# Altium schematic symbol library TI Power Management DC-DC Controller (External Switch).SchLib: 349 symbols (part 9 of 26)
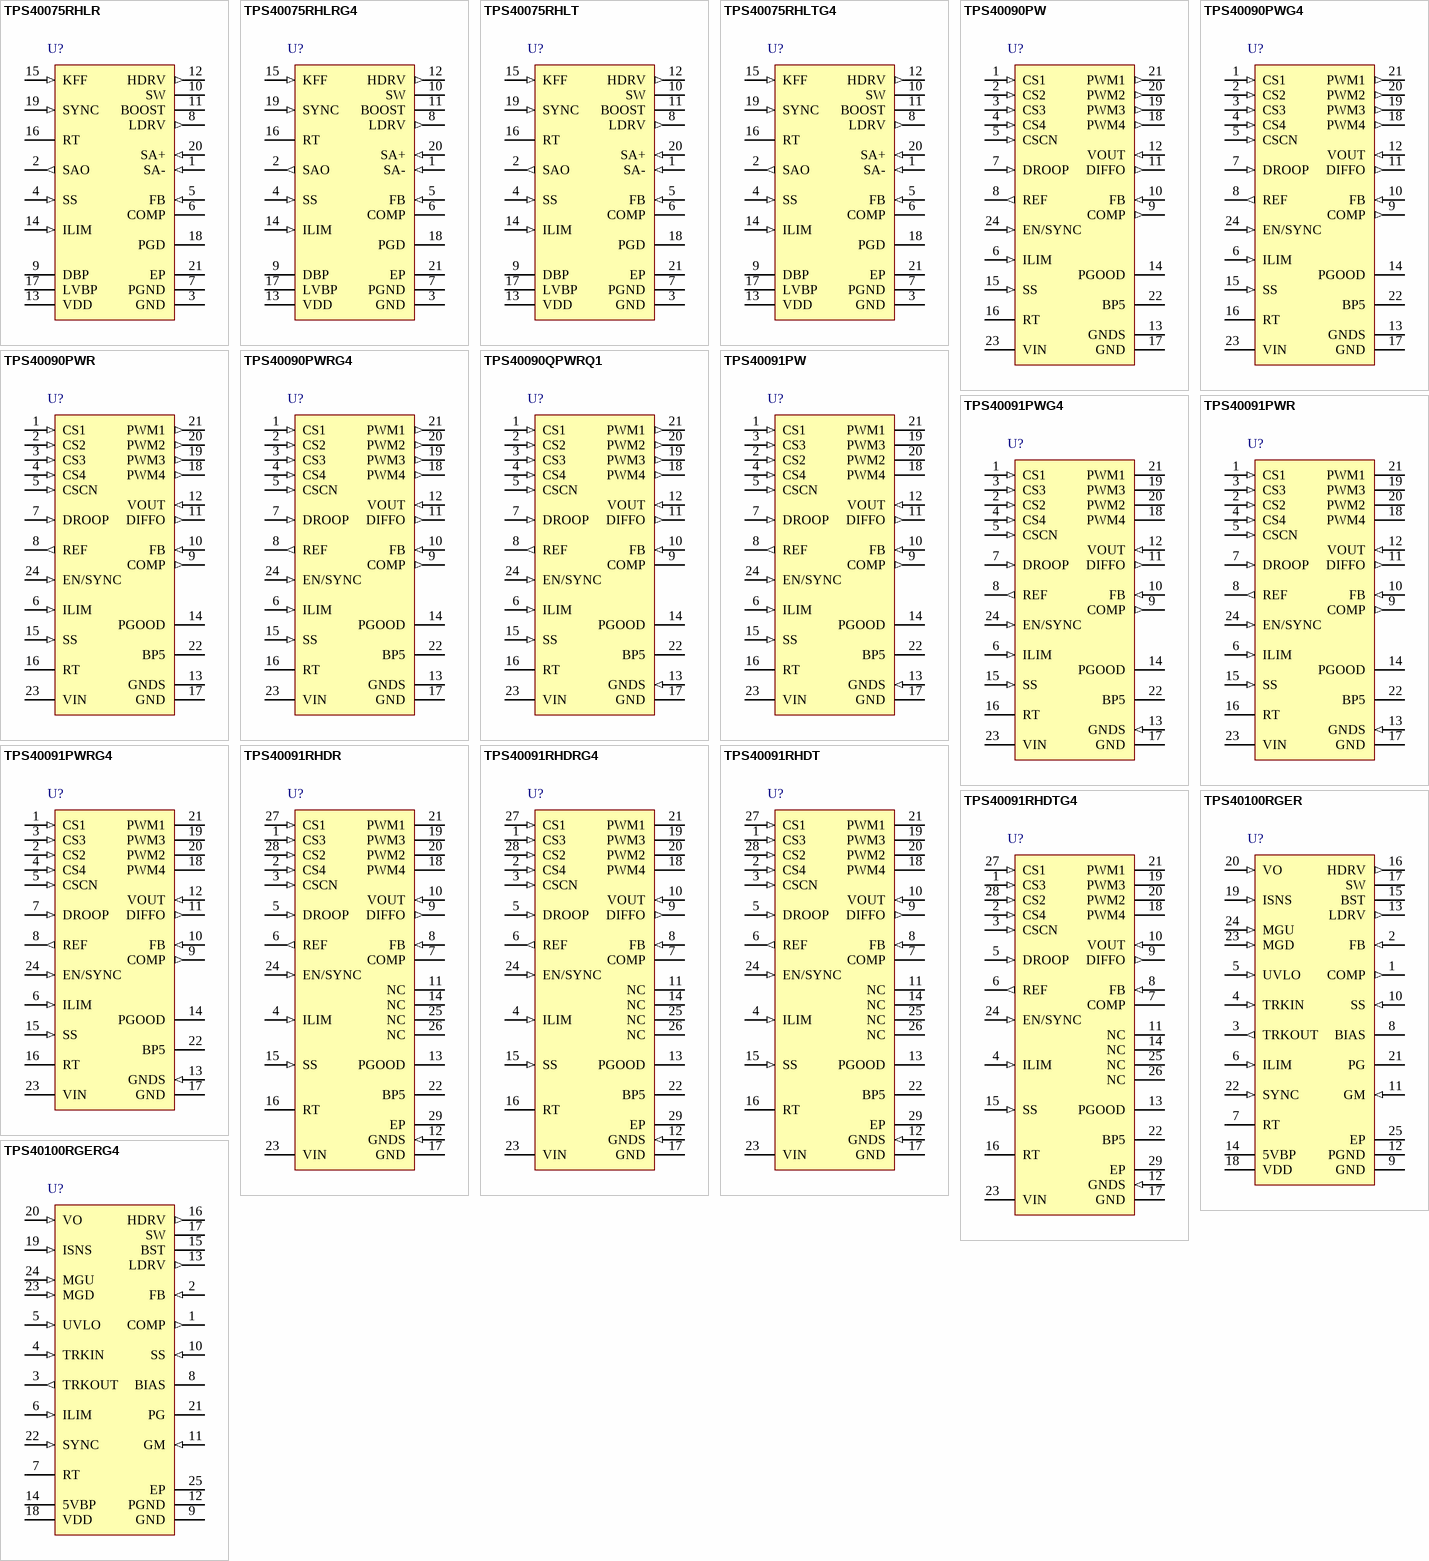
[diagram p22: symbols TPS40075RHLR to TPS40100RGERG4]

## TPS40091RHDTG4
designator U?
4 Channel Multiphase Buck DC / DC Controller with Tri-state, 87.5 % Duty Cycle, 4.5 to 15 V, 28-pin VQFN (RHD), Green (RoHS & no Sb/Br); Manufacturer: Texas Instruments; PartNumber: TPS40091RHDTG4; Duty Cycle(Max)(%): 87.5; Iout(Max)(A): 120; Regulated Outputs(#): 1; SubFamily: Multiple-Output Switching Controller; Switching Frequency(Max)(kHz): 1000; Synchronous Rectification: TRUE; Vin(Max)(V): 15; Vin(Min)(V): 4.5; Vout(Max)(V): 3.3; Vout(Min)(V): 0.7; DatasheetVersion: SLUS578B; PackageVersion: revF, Sep-2011; PackageReference: RHD28-3150X3150TP; PackageDescription: 28-Pin Plastic Quad Flatpack No-Lead, 5 x 5 mm Body, 0.5 mm Pitch, Exposed Pad; Supplier 1: Digi-Key; Supplier Part Number 1: TPS40091RHDTG4-ND; Eco-Plan: Green (RoHS & no Sb/Br); Topology: Multiphase; Mounting Technology: Surface Mount; Code_JEDEC: MO-220; ComponentLink1Description: Datasheet; ComponentLink1URL: http://www.ti.com/general/docs/lit/getliterature.tsp?genericPartNumber=TPS40091&fileType=pdf
footprint RHD28-3150X3150TP (QFN, 28-Leads, Body 5x5mm, Pitch 0.5mm, Thermal Pad 3.15x3.15mm, TI Recommended)
pins: 1 CS3 (in) "Used to sense the inductor current in the phases. Inductor current can be sensed with an external current sense resistor or by using an external circuit and the inductor's DC resistance. They are also used for overcurrent (See Datasheet)", 2 CS4 (in) "Used to sense the inductor current in the phases. Inductor current can be sensed with an external current sense resistor or by using an external circuit and the inductor's DC resistance. They are also used for overcurrent (See Datasheet)", 3 CSCN (in) "Common point of current sense resistors or filter inductors", 4 ILIM (in) "Used to set the cycle-by-cycle current limit threshold. If ILIM threshold is reached, the PWM cycle is terminated and the converter delivers limited current to the output. Under these conditions the undervoltage threshold is (See Datasheet)", 5 DROOP (in) "Used to program droop function. A resistor between this pin and the REF pin sets the desired droop value.", 6 REF (out) "Output of an internal 0.7-V reference voltage.", 7 COMP "Output of the error amplifier. The voltage at this pin determines the duty cycle for the PWM.", 8 FB (in) "Inverting input of the error amplifier. In closed loop operation, the voltage at this pin is the internal reference level of 700 mV. This pin is also used for the PGOOD and OVP comparators.", 9 DIFFO (out) "Output of the differential amplifier. The voltage at this pin represents the true output voltage without drops that result from high current in the PCB traces", 10 VOUT (in) "Noninverting input of the differential amplifier. This pin should be connected to VOUT at the point of load.", 11 NC "No connect pins", 12 GNDS (in) "Inverting input of the differential amplifier. This pin should be connected to ground at the point of load.", 13 PGOOD (oc) "Power good indicator of the output voltage. This open-drain output connects to the supply via an external resistor.", 14 NC "No connect pins", 15 SS (in) "Provides user programmable soft-start by means of a capacitor connected to the pin.", 16 RT "Connecting a resistor from this pin to ground sets the oscillator frequency.", 17 GND (power) "Ground connection to the device.", 18 PWM4 (hiz) "Phase shifted PWM outputs which control the external drivers. The high output signal commands a PWM cycle. The low output signal commands controlled conduction of the synchronous rectifiers. These pins are also used to (See Datasheet)", 19 PWM3 (hiz) "Phase shifted PWM outputs which control the external drivers. The high output signal commands a PWM cycle. The low output signal commands controlled conduction of the synchronous rectifiers. These pins are also used to (See Datasheet)", 20 PWM2 (hiz) "Phase shifted PWM outputs which control the external drivers. The high output signal commands a PWM cycle. The low output signal commands controlled conduction of the synchronous rectifiers. These pins are also used to (See Datasheet)", 21 PWM1 (hiz) "Phase shifted PWM outputs which control the external drivers. The high output signal commands a PWM cycle. The low output signal commands controlled conduction of the synchronous rectifiers. These pins are also used to (See Datasheet)", 22 BP5 (power) "Output of an internal 5V regulator. A 4.7-uF capacitor should be connected from this pin to ground. For 5V applications,this pin should be connected to VDD.", 23 VIN (power) "Power input for the chip. De-coupling of this pin is required.", 24 EN/SYNC (in) "A logic high signal on this input enables the controller operation. A pulsing signal to this pin synchronizes the main oscillator to the rising edge of an external clock source. These pulses must be of higher frequency than (See Datasheet)", 25 NC "No connect pins", 26 NC "No connect pins", 27 CS1 (in) "Used to sense the inductor current in the phases. Inductor current can be sensed with an external current sense resistor or by using an external circuit and the inductor's DC resistance. They are also used for overcurrent (See Datasheet)", 28 CS2 (in) "Used to sense the inductor current in the phases. Inductor current can be sensed with an external current sense resistor or by using an external circuit and the inductor's DC resistance. They are also used for overcurrent (See Datasheet)", 29 EP "Exposed Thermal Pad"

## TPS40100RGER
designator U?
Wide Input Range Synchronous Buck Controller for Sequencing, 85 % Duty Cycle, 4.5 to 18 V, -40 to 85 degC, 24-pin VQFN (RGE), Green (RoHS & no Sb/Br); Manufacturer: Texas Instruments; PartNumber: TPS40100RGER; Duty Cycle(Max)(%): 85; Iout(Max)(A): 20; Regulated Outputs(#): 1; SubFamily: Step-Down Controller; Switching Frequency(Max)(kHz): 600; Synchronous Rectification: TRUE; Vin(Max)(V): 18; Vin(Min)(V): 4.5; Vout(Max)(V): 5.5; Vout(Min)(V): 0.7; DatasheetVersion: SLUS601; PackageVersion: revG, Jul-2011; PackageReference: RGE24-2450X2450TP; PackageDescription: 24-Pin Plastic Quad Flatpack No-Lead, 4 x 4 mm Body, 0.5 mm Pitch; Supplier 1: Digi-Key; Supplier Part Number 1: 296-34770-2-ND; Eco-Plan: Green (RoHS & no Sb/Br); Topology: Buck; Mounting Technology: Surface Mount; Code_JEDEC: MO-220; ComponentLink1Description: Datasheet; ComponentLink1URL: http://www.ti.com/general/docs/lit/getliterature.tsp?genericPartNumber=TPS40100&fileType=pdf; ComponentLink2Description: Package Specification; ComponentLink2URL: http://www.ti.com/litv/pdf/mpqf124f
footprint RGE24-2450X2450TP (QFN, 24-Leads, Body 4x4mm, Pitch 0.5mm, Thermal Pad 2.45x2.45mm, TI Recommended)
pins: 1 COMP (out) "Output of the error amplifier. A feedback network is connected from this pin to the FB pin for control loop compensation.", 2 FB (in) "Inverting input to the error amplifier. In normal operation the voltage on this pin is equal to the internal reference voltage (approximately 690 mV).", 3 TRKOUT (out) "Output of the tracking amplifier. If the tracking feature is used, this pin should be connected to FB pin through a resistor in series with a diode. The resistor value can be calculated from the equivalent impedance at the (See Datasheet)", 4 TRKIN (in) "Control input allowing simultaneous startup of multiple controllers. The converter output tracks TRKIN voltage with a small controlled offset (typically 25 mV) when the tracking amplifier is used. See application secttion (See Datasheet)", 5 UVLO (in) "Provides for programming the undervoltage lockout level and serves as a shutdown input for the device.", 6 ILIM (in) "Current limit pin used to set the overcurrent threshold and transient ride out time. An internal current source that is proportional to the inductor current sets a voltage on a resistor connected from this pin to GND. When (See Datasheet)", 7 RT "A resistor connected from this pin to GND sets operating frequency.", 8 BIAS "The bypassed supply for internal device circuitry. Connect a 0.1-uF or greater ceramic capacitor from this pin to GND.", 9 GND (power) "Low power or signal ground for the device. All signal level circuits should be referenced to this pin unless otherwise noted.", 10 SS (in) "Soft-start programming pin. A capacitor connected from this pin to ground programs the soft-start time. This pin is also used as a time out function during an overcurrent event.", 11 GM (in) "Connect a resistor from this pin to GND to set the gain of the current sense amplifier.", 12 PGND (power) "Power ground for internal drivers", 13 LDRV (out) "Gate drive for the N-channel synchronous rectifier.", 14 5VBP (power) "Output of an internal 5-V regulator. A 1-uF bypass capacitor should be connected from this  pin to PGND. Power for external circuitry may be drawn from this pin. The total gate drive current and external current draw should (See Datasheet)", 15 BST (power) "Gate drive voltage for the high-side N-channel MOSFET. An external diode must be connected from 5VBP (A) to BST(K). A schottky diode is recommended for this purpose. A capacitor must be connected from this pin to the SW pin.", 16 HDRV (out) "Floating gate drive for the high side N-channel MOSFET.", 17 SW (power) "Connected to the switched node of the converter. This pin is the return line for the flying high side driver.", 18 VDD (power) "Supply voltage for the device.", 19 ISNS (in) "Input from the inductor DCR sensing network. This input signal is one of the inputs to the current sense amplifier for current feedback control and overcurrent protection.", 20 VO (in) "Output voltage. This is the reference input to the current sense amplifier for current mode control and overcurrent protection.", 21 PG (oc) "Open drain power good output for the device. This pin is pulled low when the voltage at the FB pin is more than 10% higher or lower than 690 mV, a UVLO condition exists, soft-start is active, tracking is active, an (See Datasheet)", 22 SYNC (in) "Rising edge triggered synchronization input for the device. This pin can be used to synchronize the oscillator frequency to an external master clock. This pin may be left floating or grounded if the function is not used.", 23 MGD (in) "Margin down pin used for load stress test. When this pin is pulled to GND through less than 10 k ohm, the output voltage is decreased by 5%. The 3% margin down at the output voltage is accommodated when this pin is connected (See Datasheet)", 24 MGU (in) "Margin up pin used for load stress test. When this pin is pulled to GND through less than 10 k ohm, the output voltage is increased by 5%. The 3% margin up at the output voltage is accommodated when this pin is connected to (See Datasheet)", 25 EP "Exposed pad."

## TPS40100RGERG4
designator U?
Wide Input Range Synchronous Buck Controller for Sequencing, 85 % Duty Cycle, 4.5 to 18 V, -40 to 85 degC, 24-pin VQFN (RGE), Green (RoHS & no Sb/Br); Manufacturer: Texas Instruments; PartNumber: TPS40100RGERG4; Duty Cycle(Max)(%): 85; Iout(Max)(A): 20; Regulated Outputs(#): 1; SubFamily: Step-Down Controller; Switching Frequency(Max)(kHz): 600; Synchronous Rectification: TRUE; Vin(Max)(V): 18; Vin(Min)(V): 4.5; Vout(Max)(V): 5.5; Vout(Min)(V): 0.7; DatasheetVersion: SLUS601; PackageVersion: revG, Jul-2011; PackageReference: RGE24-2450X2450TP; PackageDescription: 24-Pin Plastic Quad Flatpack No-Lead, 4 x 4 mm Body, 0.5 mm Pitch; Supplier 1: Digi-Key; Supplier Part Number 1: TPS40100RGERG4-ND; Eco-Plan: Green (RoHS & no Sb/Br); Topology: Buck; Mounting Technology: Surface Mount; Code_JEDEC: MO-220; ComponentLink1Description: Datasheet; ComponentLink1URL: http://www.ti.com/general/docs/lit/getliterature.tsp?genericPartNumber=TPS40100&fileType=pdf; ComponentLink2Description: Package Specification; ComponentLink2URL: http://www.ti.com/litv/pdf/mpqf124f
footprint RGE24-2450X2450TP (QFN, 24-Leads, Body 4x4mm, Pitch 0.5mm, Thermal Pad 2.45x2.45mm, TI Recommended)
pins: 1 COMP (out) "Output of the error amplifier. A feedback network is connected from this pin to the FB pin for control loop compensation.", 2 FB (in) "Inverting input to the error amplifier. In normal operation the voltage on this pin is equal to the internal reference voltage (approximately 690 mV).", 3 TRKOUT (out) "Output of the tracking amplifier. If the tracking feature is used, this pin should be connected to FB pin through a resistor in series with a diode. The resistor value can be calculated from the equivalent impedance at the (See Datasheet)", 4 TRKIN (in) "Control input allowing simultaneous startup of multiple controllers. The converter output tracks TRKIN voltage with a small controlled offset (typically 25 mV) when the tracking amplifier is used. See application secttion (See Datasheet)", 5 UVLO (in) "Provides for programming the undervoltage lockout level and serves as a shutdown input for the device.", 6 ILIM (in) "Current limit pin used to set the overcurrent threshold and transient ride out time. An internal current source that is proportional to the inductor current sets a voltage on a resistor connected from this pin to GND. When (See Datasheet)", 7 RT "A resistor connected from this pin to GND sets operating frequency.", 8 BIAS "The bypassed supply for internal device circuitry. Connect a 0.1-uF or greater ceramic capacitor from this pin to GND.", 9 GND (power) "Low power or signal ground for the device. All signal level circuits should be referenced to this pin unless otherwise noted.", 10 SS (in) "Soft-start programming pin. A capacitor connected from this pin to ground programs the soft-start time. This pin is also used as a time out function during an overcurrent event.", 11 GM (in) "Connect a resistor from this pin to GND to set the gain of the current sense amplifier.", 12 PGND (power) "Power ground for internal drivers", 13 LDRV (out) "Gate drive for the N-channel synchronous rectifier.", 14 5VBP (power) "Output of an internal 5-V regulator. A 1-uF bypass capacitor should be connected from this  pin to PGND. Power for external circuitry may be drawn from this pin. The total gate drive current and external current draw should (See Datasheet)", 15 BST (power) "Gate drive voltage for the high-side N-channel MOSFET. An external diode must be connected from 5VBP (A) to BST(K). A schottky diode is recommended for this purpose. A capacitor must be connected from this pin to the SW pin.", 16 HDRV (out) "Floating gate drive for the high side N-channel MOSFET.", 17 SW (power) "Connected to the switched node of the converter. This pin is the return line for the flying high side driver.", 18 VDD (power) "Supply voltage for the device.", 19 ISNS (in) "Input from the inductor DCR sensing network. This input signal is one of the inputs to the current sense amplifier for current feedback control and overcurrent protection.", 20 VO (in) "Output voltage. This is the reference input to the current sense amplifier for current mode control and overcurrent protection.", 21 PG (oc) "Open drain power good output for the device. This pin is pulled low when the voltage at the FB pin is more than 10% higher or lower than 690 mV, a UVLO condition exists, soft-start is active, tracking is active, an (See Datasheet)", 22 SYNC (in) "Rising edge triggered synchronization input for the device. This pin can be used to synchronize the oscillator frequency to an external master clock. This pin may be left floating or grounded if the function is not used.", 23 MGD (in) "Margin down pin used for load stress test. When this pin is pulled to GND through less than 10 k ohm, the output voltage is decreased by 5%. The 3% margin down at the output voltage is accommodated when this pin is connected (See Datasheet)", 24 MGU (in) "Margin up pin used for load stress test. When this pin is pulled to GND through less than 10 k ohm, the output voltage is increased by 5%. The 3% margin up at the output voltage is accommodated when this pin is connected to (See Datasheet)", 25 EP "Exposed pad."

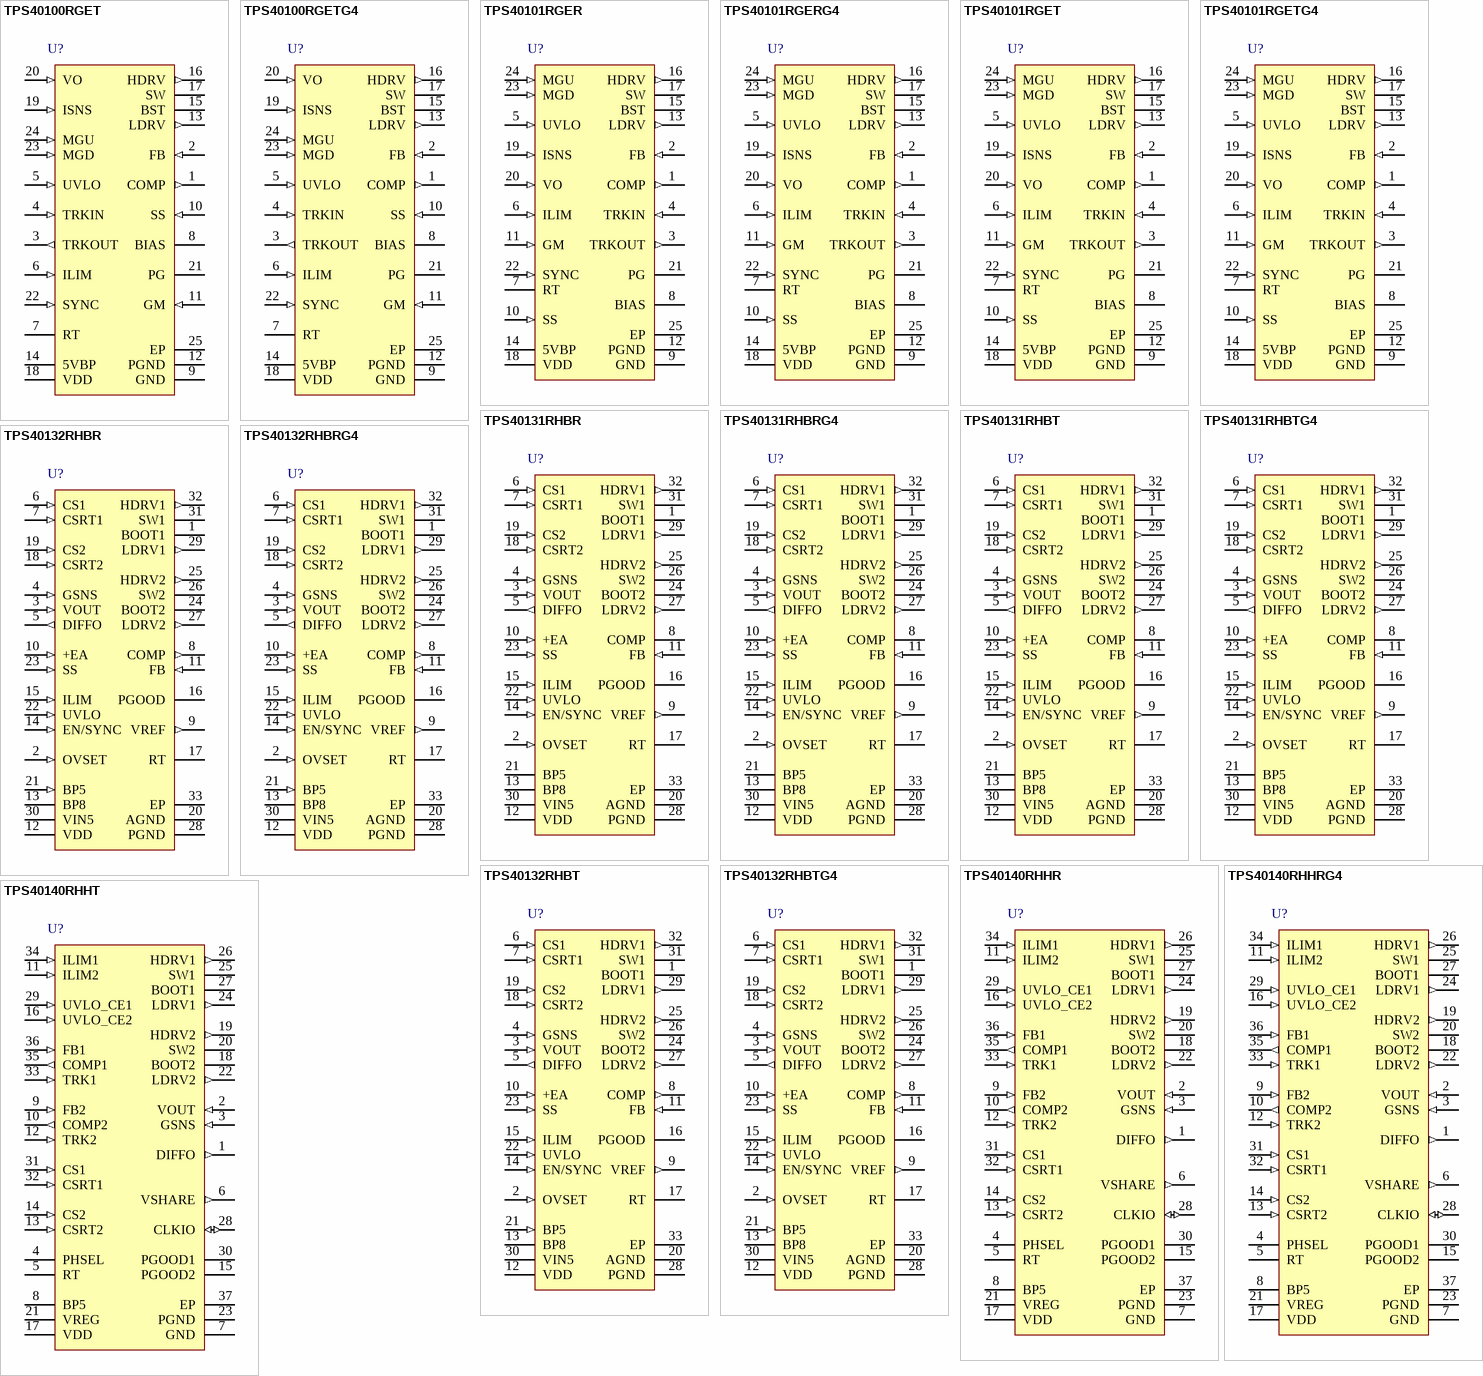
[diagram p6: symbols TPS40100RGET to TPS40140RHHT]

## TPS40100RGET
designator U?
Wide Input Range Synchronous Buck Controller for Sequencing, 85 % Duty Cycle, 4.5 to 18 V, -40 to 85 degC, 24-pin VQFN (RGE), Green (RoHS & no Sb/Br); Manufacturer: Texas Instruments; PartNumber: TPS40100RGET; Duty Cycle(Max)(%): 85; Iout(Max)(A): 20; Regulated Outputs(#): 1; SubFamily: Step-Down Controller; Switching Frequency(Max)(kHz): 600; Synchronous Rectification: TRUE; Vin(Max)(V): 18; Vin(Min)(V): 4.5; Vout(Max)(V): 5.5; Vout(Min)(V): 0.7; DatasheetVersion: SLUS601; PackageVersion: revG, Jul-2011; PackageReference: RGE24-2450X2450TP; PackageDescription: 24-Pin Plastic Quad Flatpack No-Lead, 4 x 4 mm Body, 0.5 mm Pitch; Supplier 1: Digi-Key; Supplier Part Number 1: 296-18077-2-ND; Eco-Plan: Green (RoHS & no Sb/Br); Topology: Buck; Mounting Technology: Surface Mount; Code_JEDEC: MO-220; ComponentLink1Description: Datasheet; ComponentLink1URL: http://www.ti.com/general/docs/lit/getliterature.tsp?genericPartNumber=TPS40100&fileType=pdf; ComponentLink2Description: Package Specification; ComponentLink2URL: http://www.ti.com/litv/pdf/mpqf124f
footprint RGE24-2450X2450TP (QFN, 24-Leads, Body 4x4mm, Pitch 0.5mm, Thermal Pad 2.45x2.45mm, TI Recommended)
pins: 1 COMP (out) "Output of the error amplifier. A feedback network is connected from this pin to the FB pin for control loop compensation.", 2 FB (in) "Inverting input to the error amplifier. In normal operation the voltage on this pin is equal to the internal reference voltage (approximately 690 mV).", 3 TRKOUT (out) "Output of the tracking amplifier. If the tracking feature is used, this pin should be connected to FB pin through a resistor in series with a diode. The resistor value can be calculated from the equivalent impedance at the (See Datasheet)", 4 TRKIN (in) "Control input allowing simultaneous startup of multiple controllers. The converter output tracks TRKIN voltage with a small controlled offset (typically 25 mV) when the tracking amplifier is used. See application secttion (See Datasheet)", 5 UVLO (in) "Provides for programming the undervoltage lockout level and serves as a shutdown input for the device.", 6 ILIM (in) "Current limit pin used to set the overcurrent threshold and transient ride out time. An internal current source that is proportional to the inductor current sets a voltage on a resistor connected from this pin to GND. When (See Datasheet)", 7 RT "A resistor connected from this pin to GND sets operating frequency.", 8 BIAS "The bypassed supply for internal device circuitry. Connect a 0.1-uF or greater ceramic capacitor from this pin to GND.", 9 GND (power) "Low power or signal ground for the device. All signal level circuits should be referenced to this pin unless otherwise noted.", 10 SS (in) "Soft-start programming pin. A capacitor connected from this pin to ground programs the soft-start time. This pin is also used as a time out function during an overcurrent event.", 11 GM (in) "Connect a resistor from this pin to GND to set the gain of the current sense amplifier.", 12 PGND (power) "Power ground for internal drivers", 13 LDRV (out) "Gate drive for the N-channel synchronous rectifier.", 14 5VBP (power) "Output of an internal 5-V regulator. A 1-uF bypass capacitor should be connected from this  pin to PGND. Power for external circuitry may be drawn from this pin. The total gate drive current and external current draw should (See Datasheet)", 15 BST (power) "Gate drive voltage for the high-side N-channel MOSFET. An external diode must be connected from 5VBP (A) to BST(K). A schottky diode is recommended for this purpose. A capacitor must be connected from this pin to the SW pin.", 16 HDRV (out) "Floating gate drive for the high side N-channel MOSFET.", 17 SW (power) "Connected to the switched node of the converter. This pin is the return line for the flying high side driver.", 18 VDD (power) "Supply voltage for the device.", 19 ISNS (in) "Input from the inductor DCR sensing network. This input signal is one of the inputs to the current sense amplifier for current feedback control and overcurrent protection.", 20 VO (in) "Output voltage. This is the reference input to the current sense amplifier for current mode control and overcurrent protection.", 21 PG (oc) "Open drain power good output for the device. This pin is pulled low when the voltage at the FB pin is more than 10% higher or lower than 690 mV, a UVLO condition exists, soft-start is active, tracking is active, an (See Datasheet)", 22 SYNC (in) "Rising edge triggered synchronization input for the device. This pin can be used to synchronize the oscillator frequency to an external master clock. This pin may be left floating or grounded if the function is not used.", 23 MGD (in) "Margin down pin used for load stress test. When this pin is pulled to GND through less than 10 k ohm, the output voltage is decreased by 5%. The 3% margin down at the output voltage is accommodated when this pin is connected (See Datasheet)", 24 MGU (in) "Margin up pin used for load stress test. When this pin is pulled to GND through less than 10 k ohm, the output voltage is increased by 5%. The 3% margin up at the output voltage is accommodated when this pin is connected to (See Datasheet)", 25 EP "Exposed pad."

## TPS40100RGETG4
designator U?
Wide Input Range Synchronous Buck Controller for Sequencing, 85 % Duty Cycle, 4.5 to 18 V, -40 to 85 degC, 24-pin VQFN (RGE), Green (RoHS & no Sb/Br); Manufacturer: Texas Instruments; PartNumber: TPS40100RGETG4; Duty Cycle(Max)(%): 85; Iout(Max)(A): 20; Regulated Outputs(#): 1; SubFamily: Step-Down Controller; Switching Frequency(Max)(kHz): 600; Synchronous Rectification: TRUE; Vin(Max)(V): 18; Vin(Min)(V): 4.5; Vout(Max)(V): 5.5; Vout(Min)(V): 0.7; DatasheetVersion: SLUS601; PackageVersion: revG, Jul-2011; PackageReference: RGE24-2450X2450TP; PackageDescription: 24-Pin Plastic Quad Flatpack No-Lead, 4 x 4 mm Body, 0.5 mm Pitch; Supplier 1: Digi-Key; Supplier Part Number 1: TPS40100RGETG4-ND; Eco-Plan: Green (RoHS & no Sb/Br); Topology: Buck; Mounting Technology: Surface Mount; Code_JEDEC: MO-220; ComponentLink1Description: Datasheet; ComponentLink1URL: http://www.ti.com/general/docs/lit/getliterature.tsp?genericPartNumber=TPS40100&fileType=pdf; ComponentLink2Description: Package Specification; ComponentLink2URL: http://www.ti.com/litv/pdf/mpqf124f
footprint RGE24-2450X2450TP (QFN, 24-Leads, Body 4x4mm, Pitch 0.5mm, Thermal Pad 2.45x2.45mm, TI Recommended)
pins: 1 COMP (out) "Output of the error amplifier. A feedback network is connected from this pin to the FB pin for control loop compensation.", 2 FB (in) "Inverting input to the error amplifier. In normal operation the voltage on this pin is equal to the internal reference voltage (approximately 690 mV).", 3 TRKOUT (out) "Output of the tracking amplifier. If the tracking feature is used, this pin should be connected to FB pin through a resistor in series with a diode. The resistor value can be calculated from the equivalent impedance at the (See Datasheet)", 4 TRKIN (in) "Control input allowing simultaneous startup of multiple controllers. The converter output tracks TRKIN voltage with a small controlled offset (typically 25 mV) when the tracking amplifier is used. See application secttion (See Datasheet)", 5 UVLO (in) "Provides for programming the undervoltage lockout level and serves as a shutdown input for the device.", 6 ILIM (in) "Current limit pin used to set the overcurrent threshold and transient ride out time. An internal current source that is proportional to the inductor current sets a voltage on a resistor connected from this pin to GND. When (See Datasheet)", 7 RT "A resistor connected from this pin to GND sets operating frequency.", 8 BIAS "The bypassed supply for internal device circuitry. Connect a 0.1-uF or greater ceramic capacitor from this pin to GND.", 9 GND (power) "Low power or signal ground for the device. All signal level circuits should be referenced to this pin unless otherwise noted.", 10 SS (in) "Soft-start programming pin. A capacitor connected from this pin to ground programs the soft-start time. This pin is also used as a time out function during an overcurrent event.", 11 GM (in) "Connect a resistor from this pin to GND to set the gain of the current sense amplifier.", 12 PGND (power) "Power ground for internal drivers", 13 LDRV (out) "Gate drive for the N-channel synchronous rectifier.", 14 5VBP (power) "Output of an internal 5-V regulator. A 1-uF bypass capacitor should be connected from this  pin to PGND. Power for external circuitry may be drawn from this pin. The total gate drive current and external current draw should (See Datasheet)", 15 BST (power) "Gate drive voltage for the high-side N-channel MOSFET. An external diode must be connected from 5VBP (A) to BST(K). A schottky diode is recommended for this purpose. A capacitor must be connected from this pin to the SW pin.", 16 HDRV (out) "Floating gate drive for the high side N-channel MOSFET.", 17 SW (power) "Connected to the switched node of the converter. This pin is the return line for the flying high side driver.", 18 VDD (power) "Supply voltage for the device.", 19 ISNS (in) "Input from the inductor DCR sensing network. This input signal is one of the inputs to the current sense amplifier for current feedback control and overcurrent protection.", 20 VO (in) "Output voltage. This is the reference input to the current sense amplifier for current mode control and overcurrent protection.", 21 PG (oc) "Open drain power good output for the device. This pin is pulled low when the voltage at the FB pin is more than 10% higher or lower than 690 mV, a UVLO condition exists, soft-start is active, tracking is active, an (See Datasheet)", 22 SYNC (in) "Rising edge triggered synchronization input for the device. This pin can be used to synchronize the oscillator frequency to an external master clock. This pin may be left floating or grounded if the function is not used.", 23 MGD (in) "Margin down pin used for load stress test. When this pin is pulled to GND through less than 10 k ohm, the output voltage is decreased by 5%. The 3% margin down at the output voltage is accommodated when this pin is connected (See Datasheet)", 24 MGU (in) "Margin up pin used for load stress test. When this pin is pulled to GND through less than 10 k ohm, the output voltage is increased by 5%. The 3% margin up at the output voltage is accommodated when this pin is connected to (See Datasheet)", 25 EP "Exposed pad."

## TPS40101RGER
designator U?
Mid Range Input Synchronous Buck Controller with Advanced Sequencing and Output Margining, 85 % Duty Cycle, 4.5 to 18 V, -40 to 85 degC, 24-pin VQFN (RGE), Green (RoHS & no Sb/Br); Manufacturer: Texas Instruments; PartNumber: TPS40101RGER; Duty Cycle(Max)(%): 85; Iout(Max)(A): 20; Regulated Outputs(#): 1; SubFamily: Step-Down Controller; Switching Frequency(Max)(kHz): 1000; Synchronous Rectification: TRUE; Vin(Max)(V): 18; Vin(Min)(V): 4.5; Vout(Max)(V): 5.5; Vout(Min)(V): 0.69; DatasheetVersion: SLUS726; PackageVersion: revG, Jul-2011; PackageReference: RGE24-2450X2450TP; PackageDescription: 24-Pin Plastic Quad Flatpack No-Lead, 4 x 4 mm Body, 0.5 mm Pitch; Supplier 1: Digi-Key; Supplier Part Number 1: 296-21271-2-ND; Eco-Plan: Green (RoHS & no Sb/Br); Topology: Buck; Mounting Technology: Surface Mount; Code_JEDEC: MO-220; ComponentLink1Description: Datasheet; ComponentLink1URL: http://www.ti.com/general/docs/lit/getliterature.tsp?genericPartNumber=TPS40101&fileType=pdf; ComponentLink2Description: Package Specification; ComponentLink2URL: http://www.ti.com/litv/pdf/mpqf124f
footprint RGE24-2450X2450TP (QFN, 24-Leads, Body 4x4mm, Pitch 0.5mm, Thermal Pad 2.45x2.45mm, TI Recommended)
pins: 1 COMP (out) "Output of the error amplifier. A feedback network is connected from this pin to the FB pin for control loop compensation.", 2 FB (in) "Inverting input to the error amplifier. In normal operation the voltage on this pin is equal to the internal reference voltage (approximately 690 mV).", 3 TRKOUT (out) "Output of the tracking amplifier. If the tracking feature is used, this pin should be connected to FB pin through a resistor in series with a diode. The resistor value can be calculated from the equivalent impedance at the (See Datasheet)", 4 TRKIN (in) "Control input allowing simultaneous startup of multiple controllers. The converter output tracks TRKIN voltage with a small controlled offset (typically 25 mV) when the tracking amplifier is used. See application secttion (See Datasheet)", 5 UVLO (in) "Provides for programming the undervoltage lockout level and serves as a shutdown input for the device.", 6 ILIM (in) "Current limit pin used to set the overcurrent threshold and transient ride out time. An internal current source that is proportional to the inductor current sets a voltage on a resistor connected from this pin to GND. When (See Datasheet)", 7 RT "A resistor connected from this pin to GND sets operating frequency.", 8 BIAS "The bypassed supply for internal device circuitry. Connect a 0.1-uF or greater ceramic capacitor from this pin to GND.", 9 GND (power) "Low power or signal ground for the device. All signal level circuits should be referenced to this pin unless otherwise noted.", 10 SS (in) "Soft-start programming pin. A capacitor connected from this pin to ground programs the soft-start time. This pin is also used as a time out function during an overcurrent event.", 11 GM (in) "Connect a resistor from this pin to GND to set the gain of the current sense amplifier.", 12 PGND (power) "Power ground for internal drivers", 13 LDRV (out) "Gate drive for the N-channel synchronous rectifier.", 14 5VBP (power) "Output of an internal 5-V regulator. A 1-uF bypass capacitor should be connected from this  pin to PGND. Power for external circuitry may be drawn from this pin. The total gate drive current and external current draw should (See Datasheet)", 15 BST (power) "Gate drive voltage for the high-side N-channel MOSFET. An external diode must be connected from 5VBP (A) to BST(K). A schottky diode is recommended for this purpose. A capacitor must be connected from this pin to the SW pin.", 16 HDRV (out) "Floating gate drive for the high side N-channel MOSFET.", 17 SW (power) "Connected to the switched node of the converter. This pin is the return line for the flying high side driver.", 18 VDD (power) "Supply voltage for the device.", 19 ISNS (in) "Input from the inductor DCR sensing network. This input signal is one of the inputs to the current sense amplifier for current feedback control and overcurrent protection.", 20 VO (in) "Output voltage. This is the reference input to the current sense amplifier for current mode control and overcurrent protection.", 21 PG (oc) "Open drain power good output for the device. This pin is pulled low when the voltage at the FB pin is more than 10% higher or lower than 690 mV, a UVLO condition exists, soft-start is active, tracking is active, an (See Datasheet)", 22 SYNC (in) "Rising edge triggered synchronization input for the device. This pin can be used to synchronize the oscillator frequency to an external master clock. This pin may be left floating or grounded if the function is not used.", 23 MGD (in) "Margin down pin used for load stress test. When this pin is pulled to GND through less than 10 k ohm, the output voltage is decreased by 5%. The 3% margin down at the output voltage is accommodated when this pin is connected (See Datasheet)", 24 MGU (in) "Margin up pin used for load stress test. When this pin is pulled to GND through less than 10 k ohm, the output voltage is increased by 5%. The 3% margin up at the output voltage is accommodated when this pin is connected to (See Datasheet)", 25 EP "Exposed pad."

## TPS40101RGERG4
designator U?
Mid Range Input Synchronous Buck Controller with Advanced Sequencing and Output Margining, 85 % Duty Cycle, 4.5 to 18 V, -40 to 85 degC, 24-pin VQFN (RGE), Green (RoHS & no Sb/Br); Manufacturer: Texas Instruments; PartNumber: TPS40101RGERG4; Duty Cycle(Max)(%): 85; Iout(Max)(A): 20; Regulated Outputs(#): 1; SubFamily: Step-Down Controller; Switching Frequency(Max)(kHz): 1000; Synchronous Rectification: TRUE; Vin(Max)(V): 18; Vin(Min)(V): 4.5; Vout(Max)(V): 5.5; Vout(Min)(V): 0.69; DatasheetVersion: SLUS726; PackageVersion: revG, Jul-2011; PackageReference: RGE24-2450X2450TP; PackageDescription: 24-Pin Plastic Quad Flatpack No-Lead, 4 x 4 mm Body, 0.5 mm Pitch; Supplier 1: Digi-Key; Supplier Part Number 1: TPS40101RGERG4-ND; Eco-Plan: Green (RoHS & no Sb/Br); Topology: Buck; Mounting Technology: Surface Mount; Code_JEDEC: MO-220; ComponentLink1Description: Datasheet; ComponentLink1URL: http://www.ti.com/general/docs/lit/getliterature.tsp?genericPartNumber=TPS40101&fileType=pdf; ComponentLink2Description: Package Specification; ComponentLink2URL: http://www.ti.com/litv/pdf/mpqf124f
footprint RGE24-2450X2450TP (QFN, 24-Leads, Body 4x4mm, Pitch 0.5mm, Thermal Pad 2.45x2.45mm, TI Recommended)
pins: 1 COMP (out) "Output of the error amplifier. A feedback network is connected from this pin to the FB pin for control loop compensation.", 2 FB (in) "Inverting input to the error amplifier. In normal operation the voltage on this pin is equal to the internal reference voltage (approximately 690 mV).", 3 TRKOUT (out) "Output of the tracking amplifier. If the tracking feature is used, this pin should be connected to FB pin through a resistor in series with a diode. The resistor value can be calculated from the equivalent impedance at the (See Datasheet)", 4 TRKIN (in) "Control input allowing simultaneous startup of multiple controllers. The converter output tracks TRKIN voltage with a small controlled offset (typically 25 mV) when the tracking amplifier is used. See application secttion (See Datasheet)", 5 UVLO (in) "Provides for programming the undervoltage lockout level and serves as a shutdown input for the device.", 6 ILIM (in) "Current limit pin used to set the overcurrent threshold and transient ride out time. An internal current source that is proportional to the inductor current sets a voltage on a resistor connected from this pin to GND. When (See Datasheet)", 7 RT "A resistor connected from this pin to GND sets operating frequency.", 8 BIAS "The bypassed supply for internal device circuitry. Connect a 0.1-uF or greater ceramic capacitor from this pin to GND.", 9 GND (power) "Low power or signal ground for the device. All signal level circuits should be referenced to this pin unless otherwise noted.", 10 SS (in) "Soft-start programming pin. A capacitor connected from this pin to ground programs the soft-start time. This pin is also used as a time out function during an overcurrent event.", 11 GM (in) "Connect a resistor from this pin to GND to set the gain of the current sense amplifier.", 12 PGND (power) "Power ground for internal drivers", 13 LDRV (out) "Gate drive for the N-channel synchronous rectifier.", 14 5VBP (power) "Output of an internal 5-V regulator. A 1-uF bypass capacitor should be connected from this  pin to PGND. Power for external circuitry may be drawn from this pin. The total gate drive current and external current draw should (See Datasheet)", 15 BST (power) "Gate drive voltage for the high-side N-channel MOSFET. An external diode must be connected from 5VBP (A) to BST(K). A schottky diode is recommended for this purpose. A capacitor must be connected from this pin to the SW pin.", 16 HDRV (out) "Floating gate drive for the high side N-channel MOSFET.", 17 SW (power) "Connected to the switched node of the converter. This pin is the return line for the flying high side driver.", 18 VDD (power) "Supply voltage for the device.", 19 ISNS (in) "Input from the inductor DCR sensing network. This input signal is one of the inputs to the current sense amplifier for current feedback control and overcurrent protection.", 20 VO (in) "Output voltage. This is the reference input to the current sense amplifier for current mode control and overcurrent protection.", 21 PG (oc) "Open drain power good output for the device. This pin is pulled low when the voltage at the FB pin is more than 10% higher or lower than 690 mV, a UVLO condition exists, soft-start is active, tracking is active, an (See Datasheet)", 22 SYNC (in) "Rising edge triggered synchronization input for the device. This pin can be used to synchronize the oscillator frequency to an external master clock. This pin may be left floating or grounded if the function is not used.", 23 MGD (in) "Margin down pin used for load stress test. When this pin is pulled to GND through less than 10 k ohm, the output voltage is decreased by 5%. The 3% margin down at the output voltage is accommodated when this pin is connected (See Datasheet)", 24 MGU (in) "Margin up pin used for load stress test. When this pin is pulled to GND through less than 10 k ohm, the output voltage is increased by 5%. The 3% margin up at the output voltage is accommodated when this pin is connected to (See Datasheet)", 25 EP "Exposed pad."

## TPS40101RGET
designator U?
Mid Range Input Synchronous Buck Controller with Advanced Sequencing and Output Margining, 85 % Duty Cycle, 4.5 to 18 V, -40 to 85 degC, 24-pin VQFN (RGE), Green (RoHS & no Sb/Br); Manufacturer: Texas Instruments; PartNumber: TPS40101RGET; Duty Cycle(Max)(%): 85; Iout(Max)(A): 20; Regulated Outputs(#): 1; SubFamily: Step-Down Controller; Switching Frequency(Max)(kHz): 1000; Synchronous Rectification: TRUE; Vin(Max)(V): 18; Vin(Min)(V): 4.5; Vout(Max)(V): 5.5; Vout(Min)(V): 0.69; DatasheetVersion: SLUS726; PackageVersion: revG, Jul-2011; PackageReference: RGE24-2450X2450TP; PackageDescription: 24-Pin Plastic Quad Flatpack No-Lead, 4 x 4 mm Body, 0.5 mm Pitch; Supplier 1: Digi-Key; Supplier Part Number 1: TPS40101RGET-ND; Eco-Plan: Green (RoHS & no Sb/Br); Topology: Buck; Mounting Technology: Surface Mount; Code_JEDEC: MO-220; ComponentLink1Description: Datasheet; ComponentLink1URL: http://www.ti.com/general/docs/lit/getliterature.tsp?genericPartNumber=TPS40101&fileType=pdf; ComponentLink2Description: Package Specification; ComponentLink2URL: http://www.ti.com/litv/pdf/mpqf124f
footprint RGE24-2450X2450TP (QFN, 24-Leads, Body 4x4mm, Pitch 0.5mm, Thermal Pad 2.45x2.45mm, TI Recommended)
pins: 1 COMP (out) "Output of the error amplifier. A feedback network is connected from this pin to the FB pin for control loop compensation.", 2 FB (in) "Inverting input to the error amplifier. In normal operation the voltage on this pin is equal to the internal reference voltage (approximately 690 mV).", 3 TRKOUT (out) "Output of the tracking amplifier. If the tracking feature is used, this pin should be connected to FB pin through a resistor in series with a diode. The resistor value can be calculated from the equivalent impedance at the (See Datasheet)", 4 TRKIN (in) "Control input allowing simultaneous startup of multiple controllers. The converter output tracks TRKIN voltage with a small controlled offset (typically 25 mV) when the tracking amplifier is used. See application secttion (See Datasheet)", 5 UVLO (in) "Provides for programming the undervoltage lockout level and serves as a shutdown input for the device.", 6 ILIM (in) "Current limit pin used to set the overcurrent threshold and transient ride out time. An internal current source that is proportional to the inductor current sets a voltage on a resistor connected from this pin to GND. When (See Datasheet)", 7 RT "A resistor connected from this pin to GND sets operating frequency.", 8 BIAS "The bypassed supply for internal device circuitry. Connect a 0.1-uF or greater ceramic capacitor from this pin to GND.", 9 GND (power) "Low power or signal ground for the device. All signal level circuits should be referenced to this pin unless otherwise noted.", 10 SS (in) "Soft-start programming pin. A capacitor connected from this pin to ground programs the soft-start time. This pin is also used as a time out function during an overcurrent event.", 11 GM (in) "Connect a resistor from this pin to GND to set the gain of the current sense amplifier.", 12 PGND (power) "Power ground for internal drivers", 13 LDRV (out) "Gate drive for the N-channel synchronous rectifier.", 14 5VBP (power) "Output of an internal 5-V regulator. A 1-uF bypass capacitor should be connected from this  pin to PGND. Power for external circuitry may be drawn from this pin. The total gate drive current and external current draw should (See Datasheet)", 15 BST (power) "Gate drive voltage for the high-side N-channel MOSFET. An external diode must be connected from 5VBP (A) to BST(K). A schottky diode is recommended for this purpose. A capacitor must be connected from this pin to the SW pin.", 16 HDRV (out) "Floating gate drive for the high side N-channel MOSFET.", 17 SW (power) "Connected to the switched node of the converter. This pin is the return line for the flying high side driver.", 18 VDD (power) "Supply voltage for the device.", 19 ISNS (in) "Input from the inductor DCR sensing network. This input signal is one of the inputs to the current sense amplifier for current feedback control and overcurrent protection.", 20 VO (in) "Output voltage. This is the reference input to the current sense amplifier for current mode control and overcurrent protection.", 21 PG (oc) "Open drain power good output for the device. This pin is pulled low when the voltage at the FB pin is more than 10% higher or lower than 690 mV, a UVLO condition exists, soft-start is active, tracking is active, an (See Datasheet)", 22 SYNC (in) "Rising edge triggered synchronization input for the device. This pin can be used to synchronize the oscillator frequency to an external master clock. This pin may be left floating or grounded if the function is not used.", 23 MGD (in) "Margin down pin used for load stress test. When this pin is pulled to GND through less than 10 k ohm, the output voltage is decreased by 5%. The 3% margin down at the output voltage is accommodated when this pin is connected (See Datasheet)", 24 MGU (in) "Margin up pin used for load stress test. When this pin is pulled to GND through less than 10 k ohm, the output voltage is increased by 5%. The 3% margin up at the output voltage is accommodated when this pin is connected to (See Datasheet)", 25 EP "Exposed pad."

## TPS40101RGETG4
designator U?
Mid Range Input Synchronous Buck Controller with Advanced Sequencing and Output Margining, 85 % Duty Cycle, 4.5 to 18 V, -40 to 85 degC, 24-pin VQFN (RGE), Green (RoHS & no Sb/Br); Manufacturer: Texas Instruments; PartNumber: TPS40101RGETG4; Duty Cycle(Max)(%): 85; Iout(Max)(A): 20; Regulated Outputs(#): 1; SubFamily: Step-Down Controller; Switching Frequency(Max)(kHz): 1000; Synchronous Rectification: TRUE; Vin(Max)(V): 18; Vin(Min)(V): 4.5; Vout(Max)(V): 5.5; Vout(Min)(V): 0.69; DatasheetVersion: SLUS726; PackageVersion: revG, Jul-2011; PackageReference: RGE24-2450X2450TP; PackageDescription: 24-Pin Plastic Quad Flatpack No-Lead, 4 x 4 mm Body, 0.5 mm Pitch; Supplier 1: Digi-Key; Supplier Part Number 1: TPS40101RGETG4-ND; Eco-Plan: Green (RoHS & no Sb/Br); Topology: Buck; Mounting Technology: Surface Mount; Code_JEDEC: MO-220; ComponentLink1Description: Datasheet; ComponentLink1URL: http://www.ti.com/general/docs/lit/getliterature.tsp?genericPartNumber=TPS40101&fileType=pdf; ComponentLink2Description: Package Specification; ComponentLink2URL: http://www.ti.com/litv/pdf/mpqf124f
footprint RGE24-2450X2450TP (QFN, 24-Leads, Body 4x4mm, Pitch 0.5mm, Thermal Pad 2.45x2.45mm, TI Recommended)
pins: 1 COMP (out) "Output of the error amplifier. A feedback network is connected from this pin to the FB pin for control loop compensation.", 2 FB (in) "Inverting input to the error amplifier. In normal operation the voltage on this pin is equal to the internal reference voltage (approximately 690 mV).", 3 TRKOUT (out) "Output of the tracking amplifier. If the tracking feature is used, this pin should be connected to FB pin through a resistor in series with a diode. The resistor value can be calculated from the equivalent impedance at the (See Datasheet)", 4 TRKIN (in) "Control input allowing simultaneous startup of multiple controllers. The converter output tracks TRKIN voltage with a small controlled offset (typically 25 mV) when the tracking amplifier is used. See application secttion (See Datasheet)", 5 UVLO (in) "Provides for programming the undervoltage lockout level and serves as a shutdown input for the device.", 6 ILIM (in) "Current limit pin used to set the overcurrent threshold and transient ride out time. An internal current source that is proportional to the inductor current sets a voltage on a resistor connected from this pin to GND. When (See Datasheet)", 7 RT "A resistor connected from this pin to GND sets operating frequency.", 8 BIAS "The bypassed supply for internal device circuitry. Connect a 0.1-uF or greater ceramic capacitor from this pin to GND.", 9 GND (power) "Low power or signal ground for the device. All signal level circuits should be referenced to this pin unless otherwise noted.", 10 SS (in) "Soft-start programming pin. A capacitor connected from this pin to ground programs the soft-start time. This pin is also used as a time out function during an overcurrent event.", 11 GM (in) "Connect a resistor from this pin to GND to set the gain of the current sense amplifier.", 12 PGND (power) "Power ground for internal drivers", 13 LDRV (out) "Gate drive for the N-channel synchronous rectifier.", 14 5VBP (power) "Output of an internal 5-V regulator. A 1-uF bypass capacitor should be connected from this  pin to PGND. Power for external circuitry may be drawn from this pin. The total gate drive current and external current draw should (See Datasheet)", 15 BST (power) "Gate drive voltage for the high-side N-channel MOSFET. An external diode must be connected from 5VBP (A) to BST(K). A schottky diode is recommended for this purpose. A capacitor must be connected from this pin to the SW pin.", 16 HDRV (out) "Floating gate drive for the high side N-channel MOSFET.", 17 SW (power) "Connected to the switched node of the converter. This pin is the return line for the flying high side driver.", 18 VDD (power) "Supply voltage for the device.", 19 ISNS (in) "Input from the inductor DCR sensing network. This input signal is one of the inputs to the current sense amplifier for current feedback control and overcurrent protection.", 20 VO (in) "Output voltage. This is the reference input to the current sense amplifier for current mode control and overcurrent protection.", 21 PG (oc) "Open drain power good output for the device. This pin is pulled low when the voltage at the FB pin is more than 10% higher or lower than 690 mV, a UVLO condition exists, soft-start is active, tracking is active, an (See Datasheet)", 22 SYNC (in) "Rising edge triggered synchronization input for the device. This pin can be used to synchronize the oscillator frequency to an external master clock. This pin may be left floating or grounded if the function is not used.", 23 MGD (in) "Margin down pin used for load stress test. When this pin is pulled to GND through less than 10 k ohm, the output voltage is decreased by 5%. The 3% margin down at the output voltage is accommodated when this pin is connected (See Datasheet)", 24 MGU (in) "Margin up pin used for load stress test. When this pin is pulled to GND through less than 10 k ohm, the output voltage is increased by 5%. The 3% margin up at the output voltage is accommodated when this pin is connected to (See Datasheet)", 25 EP "Exposed pad."